# Altium footprint library MyCustomLib.PcbLib: 7 footprints
Each footprint in its own frame and in the unit in brackets; x right, y up, seen from the top. Pads: shape width x height; smd on the part's side, far side on the other; paste and mask are expansions set on the pad; w line width, h text height; cw(c..) or ccw(c..) is an arc to the next point about the centre after c.
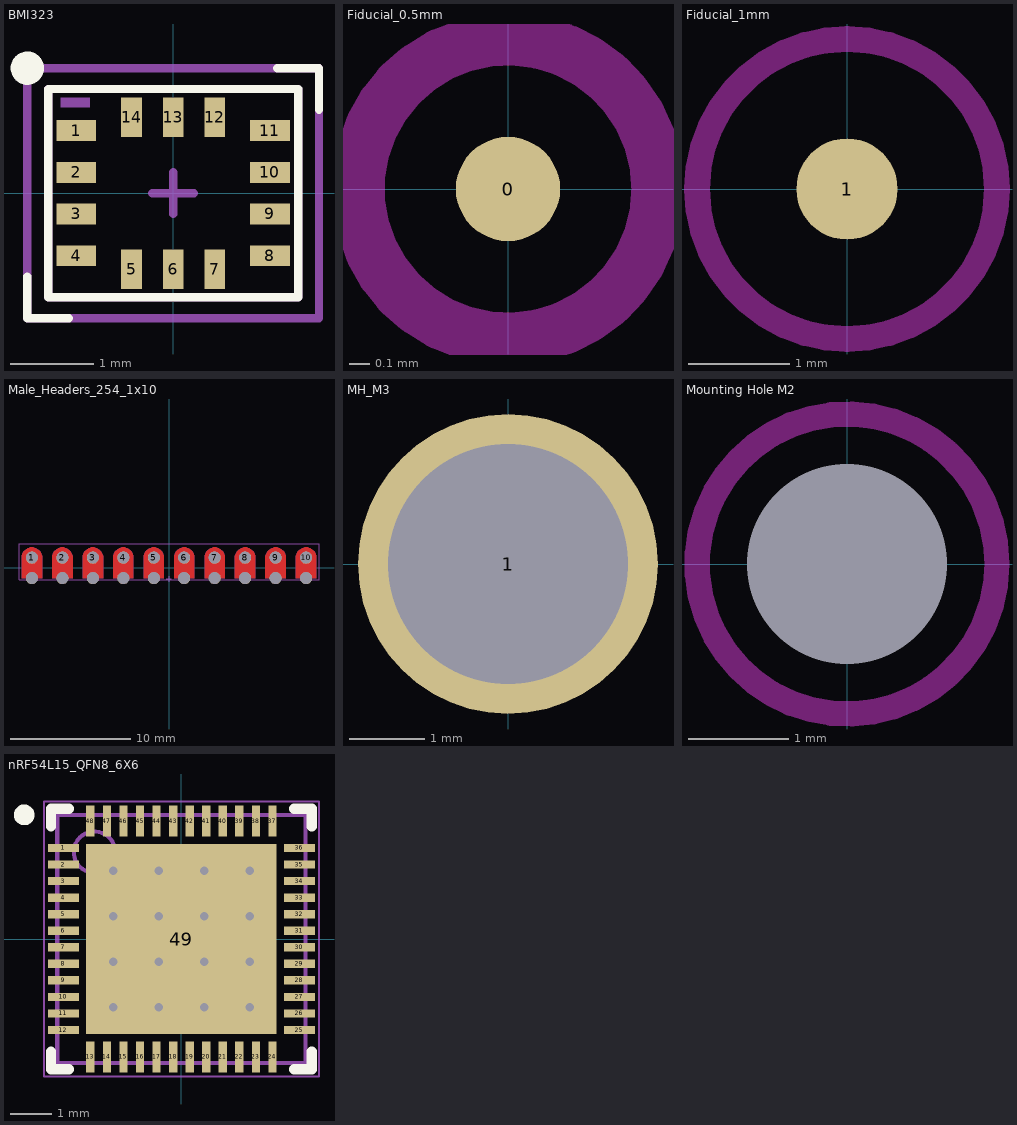
[diagram p0: the footprints below, top view; thin cyan lines are the x and y axes]

## BMI323 [mm]
pads (14):
  rect 0.475x0.25 smd: 1(-1.162,0.75) 2(-1.162,0.25) 3(-1.162,-0.25) 4(-1.162,-0.75) 8(1.162,-0.75) 9(1.162,-0.25) 10(1.162,0.25) 11(1.162,0.75)
  rect 0.25x0.475 smd: 5(-0.5,-0.913) 6(0,-0.913) 7(0.5,-0.913) 12(0.5,0.913) 13(0,0.913) 14(-0.5,0.913)
Top Overlay:
  circle w0.2: c-1.75,1.5 r0.1
  lines w0.1: -1.75,-1 -1.75,-1.5 -1.25,-1.5 ; 1.25,1.5 1.75,1.5 1.75,1 ; -1.5,-1.25 -1.5,1.25 1.5,1.25 1.5,-1.25 -1.5,-1.25
Top Assembly:
  rectangle: -1.35,1.025 -1,1.15
  lines w0.1: -1.5,-1.25 1.5,-1.25 1.5,1.25 -1.5,1.25 -1.5,-1.25
Top Courtyard:
  lines w0.1: -1.75,-1.5 1.75,-1.5 1.75,1.5 -1.75,1.5 -1.75,-1.5
Top Component Center:
  lines w0.1: -0.25,0 0.25,0 ; 0,-0.25 0,0.25
3D body "BMI323_BOS.step": height 0.87, standoff 0, extent -1.499,-1.194 1.499,1.194

## Fiducial_0.5mm [mm]
pads (1):
  round 0.5 smd paste-3 mask+0.5: 0(0,0)
Top Layer keep-out:
  circle w0.254: c0,0 r0.718

## Fiducial_1mm [mm]
pads (1):
  round 1 smd paste-3 mask+1: 1(0,0)
Top Layer keep-out:
  circle w0.254: c0,0 r1.481

## Male_Headers_254_1x10 [mm]
pads (20):
  round 1 hole 1: 1(-11.43,0.85) 2(-8.89,0.85) 3(-6.35,0.85) 4(-3.81,0.85) 5(-1.27,0.85) 6(1.27,0.85) 7(3.81,0.85) 8(6.35,0.85) 9(8.89,0.85) 10(11.43,0.85) ""(-11.43,-0.85) ""(-8.89,-0.85) ""(-6.35,-0.85) ""(-3.81,-0.85) ""(-1.27,-0.85) ""(1.27,-0.85) ""(3.81,-0.85) ""(6.35,-0.85) ""(8.89,-0.85) ""(11.43,-0.85)
Top Layer:
  region: 10.58,-0.85 12.28,-0.85 12.28,0.85 12.28,0.962 12.222,1.178 12.11,1.372 11.952,1.53 11.758,1.642 11.542,1.7 11.318,1.7 11.102,1.642 10.908,1.53 10.75,1.372 10.638,1.178 10.58,0.962 10.58,0.85
  region: 8.04,-0.85 9.74,-0.85 9.74,0.85 9.74,0.962 9.682,1.178 9.57,1.372 9.412,1.53 9.218,1.642 9.002,1.7 8.778,1.7 8.562,1.642 8.368,1.53 8.21,1.372 8.098,1.178 8.04,0.962 8.04,0.85
  region: 5.5,-0.85 7.2,-0.85 7.2,0.85 7.2,0.962 7.142,1.178 7.03,1.372 6.872,1.53 6.678,1.642 6.462,1.7 6.238,1.7 6.022,1.642 5.828,1.53 5.67,1.372 5.558,1.178 5.5,0.962 5.5,0.85
  region: 2.96,-0.85 4.66,-0.85 4.66,0.85 4.66,0.962 4.602,1.178 4.49,1.372 4.332,1.53 4.138,1.642 3.922,1.7 3.698,1.7 3.482,1.642 3.288,1.53 3.13,1.372 3.018,1.178 2.96,0.962 2.96,0.85
  region: 0.42,-0.85 2.12,-0.85 2.12,0.85 2.12,0.962 2.062,1.178 1.95,1.372 1.792,1.53 1.598,1.642 1.382,1.7 1.158,1.7 0.942,1.642 0.748,1.53 0.59,1.372 0.478,1.178 0.42,0.962 0.42,0.85
  region: -2.12,-0.85 -0.42,-0.85 -0.42,0.85 -0.42,0.962 -0.478,1.178 -0.59,1.372 -0.748,1.53 -0.942,1.642 -1.158,1.7 -1.382,1.7 -1.598,1.642 -1.792,1.53 -1.95,1.372 -2.062,1.178 -2.12,0.962 -2.12,0.85
  region: -4.66,-0.85 -2.96,-0.85 -2.96,0.85 -2.96,0.962 -3.018,1.178 -3.13,1.372 -3.288,1.53 -3.482,1.642 -3.698,1.7 -3.922,1.7 -4.138,1.642 -4.332,1.53 -4.49,1.372 -4.602,1.178 -4.66,0.962 -4.66,0.85
  region: -7.2,-0.85 -5.5,-0.85 -5.5,0.85 -5.5,0.962 -5.558,1.178 -5.67,1.372 -5.828,1.53 -6.022,1.642 -6.238,1.7 -6.462,1.7 -6.678,1.642 -6.872,1.53 -7.03,1.372 -7.142,1.178 -7.2,0.962 -7.2,0.85
  region: -9.74,-0.85 -8.04,-0.85 -8.04,0.85 -8.04,0.962 -8.098,1.178 -8.21,1.372 -8.368,1.53 -8.562,1.642 -8.778,1.7 -9.002,1.7 -9.218,1.642 -9.412,1.53 -9.57,1.372 -9.682,1.178 -9.74,0.962 -9.74,0.85
  region: -12.28,-0.85 -10.58,-0.85 -10.58,0.85 -10.58,0.962 -10.638,1.178 -10.75,1.372 -10.908,1.53 -11.102,1.642 -11.318,1.7 -11.542,1.7 -11.758,1.642 -11.952,1.53 -12.11,1.372 -12.222,1.178 -12.28,0.962 -12.28,0.85
Bottom Layer:
  region: -12.28,-0.85 -10.58,-0.85 -10.58,0.85 -10.58,0.962 -10.638,1.178 -10.75,1.372 -10.908,1.53 -11.102,1.642 -11.318,1.7 -11.542,1.7 -11.758,1.642 -11.952,1.53 -12.11,1.372 -12.222,1.178 -12.28,0.962 -12.28,0.85
  region: -9.74,-0.85 -8.04,-0.85 -8.04,0.85 -8.04,0.962 -8.098,1.178 -8.21,1.372 -8.368,1.53 -8.562,1.642 -8.778,1.7 -9.002,1.7 -9.218,1.642 -9.412,1.53 -9.57,1.372 -9.682,1.178 -9.74,0.962 -9.74,0.85
  region: -7.2,-0.85 -5.5,-0.85 -5.5,0.85 -5.5,0.962 -5.558,1.178 -5.67,1.372 -5.828,1.53 -6.022,1.642 -6.238,1.7 -6.462,1.7 -6.678,1.642 -6.872,1.53 -7.03,1.372 -7.142,1.178 -7.2,0.962 -7.2,0.85
  region: -2.12,-0.85 -0.42,-0.85 -0.42,0.85 -0.42,0.962 -0.478,1.178 -0.59,1.372 -0.748,1.53 -0.942,1.642 -1.158,1.7 -1.382,1.7 -1.598,1.642 -1.792,1.53 -1.95,1.372 -2.062,1.178 -2.12,0.962 -2.12,0.85
  region: -4.66,-0.85 -2.96,-0.85 -2.96,0.85 -2.96,0.962 -3.018,1.178 -3.13,1.372 -3.288,1.53 -3.482,1.642 -3.698,1.7 -3.922,1.7 -4.138,1.642 -4.332,1.53 -4.49,1.372 -4.602,1.178 -4.66,0.962 -4.66,0.85
  region: 2.96,-0.85 4.66,-0.85 4.66,0.85 4.66,0.962 4.602,1.178 4.49,1.372 4.332,1.53 4.138,1.642 3.922,1.7 3.698,1.7 3.482,1.642 3.288,1.53 3.13,1.372 3.018,1.178 2.96,0.962 2.96,0.85
  region: 5.5,-0.85 7.2,-0.85 7.2,0.85 7.2,0.962 7.142,1.178 7.03,1.372 6.872,1.53 6.678,1.642 6.462,1.7 6.238,1.7 6.022,1.642 5.828,1.53 5.67,1.372 5.558,1.178 5.5,0.962 5.5,0.85
  region: 8.04,-0.85 9.74,-0.85 9.74,0.85 9.74,0.962 9.682,1.178 9.57,1.372 9.412,1.53 9.218,1.642 9.002,1.7 8.778,1.7 8.562,1.642 8.368,1.53 8.21,1.372 8.098,1.178 8.04,0.962 8.04,0.85
  region: 10.58,-0.85 12.28,-0.85 12.28,0.85 12.28,0.962 12.222,1.178 12.11,1.372 11.952,1.53 11.758,1.642 11.542,1.7 11.318,1.7 11.102,1.642 10.908,1.53 10.75,1.372 10.638,1.178 10.58,0.962 10.58,0.85
  region: 0.42,-0.85 2.12,-0.85 2.12,0.85 2.12,0.962 2.062,1.178 1.95,1.372 1.792,1.53 1.598,1.642 1.382,1.7 1.158,1.7 0.942,1.642 0.748,1.53 0.59,1.372 0.478,1.178 0.42,0.962 0.42,0.85
Top Assembly:
  lines w0.1: -12.5,-1 12.5,-1 12.5,2 -12.5,2 -12.5,-1
Top Courtyard:
  lines w0.1: -12.5,-1 12.5,-1 12.5,2 -12.5,2 -12.5,-1
Top Component Center:
  lines w0.1: -0.229,-0.914 0.203,-0.914 ; 0,-1.168 0,-0.686

## MH_M3 [mm]
pads (1):
  round 4 hole 3.2: 1(0,0)

## Mounting Hole M2 [mm]
pads (1):
  round 0 hole 2 mask+1.5: 3(0,0)
Top Layer keep-out:
  circle w0.254: c0,0 r1.5

## nRF54L15_QFN8_6X6 [mm] "nRF54L15_QFN8_6X6, 48-Leads, Body 6,00x6,00mm, Pitch 0,40mm, Thermal Pad 4,60x4,60mm, IPC High Density"
height 0.9
pads (49):
  rect 0.75x0.2 smd: 1(-2.85,2.2) 2(-2.85,1.8) 3(-2.85,1.4) 4(-2.85,1) 5(-2.85,0.6) 6(-2.85,0.2) 7(-2.85,-0.2) 8(-2.85,-0.6) 9(-2.85,-1) 10(-2.85,-1.4) 11(-2.85,-1.8) 12(-2.85,-2.2) 25(2.85,-2.2) 26(2.85,-1.8) 27(2.85,-1.4) 28(2.85,-1) 29(2.85,-0.6) 30(2.85,-0.2) 31(2.85,0.2) 32(2.85,0.6) 33(2.85,1) 34(2.85,1.4) 35(2.85,1.8) 36(2.85,2.2)
  rect 0.2x0.75 smd: 13(-2.2,-2.85) 14(-1.8,-2.85) 15(-1.4,-2.85) 16(-1,-2.85) 17(-0.6,-2.85) 18(-0.2,-2.85) 19(0.2,-2.85) 20(0.6,-2.85) 21(1,-2.85) 22(1.4,-2.85) 23(1.8,-2.85) 24(2.2,-2.85) 37(2.2,2.85) 38(1.8,2.85) 39(1.4,2.85) 40(1,2.85) 41(0.6,2.85) 42(0.2,2.85) 43(-0.2,2.85) 44(-0.6,2.85) 45(-1,2.85) 46(-1.4,2.85) 47(-1.8,2.85) 48(-2.2,2.85)
  rect 4.6x4.6 smd: 49(0,0)
via 1.65,-1.65 diameter 0.5 hole 0.2
via 0.55,-1.65 diameter 0.5 hole 0.2
via -0.55,-1.65 diameter 0.5 hole 0.2
via -1.65,-1.65 diameter 0.5 hole 0.2
via 1.65,-0.55 diameter 0.5 hole 0.2
via 0.55,-0.55 diameter 0.5 hole 0.2
via -0.55,-0.55 diameter 0.5 hole 0.2
via -1.65,-0.55 diameter 0.5 hole 0.2
via 1.65,0.55 diameter 0.5 hole 0.2
via 0.55,0.55 diameter 0.5 hole 0.2
via -0.55,0.55 diameter 0.5 hole 0.2
via -1.65,0.55 diameter 0.5 hole 0.2
via 1.65,1.65 diameter 0.5 hole 0.2
via 0.55,1.65 diameter 0.5 hole 0.2
via -0.55,1.65 diameter 0.5 hole 0.2
via -1.65,1.65 diameter 0.5 hole 0.2
Top Overlay:
  circle w0.25: c-3.8,3 r0.125
  lines w0.25: -3.15,-2.725 -3.15,-3.15 -2.725,-3.15 ; -3.15,2.725 -3.15,3.15 -2.725,3.15 ; 2.725,-3.15 3.15,-3.15 3.15,-2.725 ; 2.725,3.15 3.15,3.15 3.15,2.725
Top Assembly:
  circle w0.1: c-2.1,2.1 r0.5
  lines w0.1: -3,-3 3,-3 3,3 -3,3 -3,-3
Top Courtyard:
  lines w0.05: -3.325,-3.325 3.325,-3.325 3.325,3.325 -3.325,3.325 -3.325,-3.325
  lines w0.1: -0.5,0 0.5,0 ; 0,-0.5 0,0.5
3D body "nRF54L15_QFN40P600X600X90_HS-49L.step": height 0.9, standoff 0, extent -3.04,-3.04 3.04,3.04